# EAGLE library part TLS208D1 (library infineon)
The TLS208D1 is a monolithic integrated linear voltage post regulator. The IC regulates an input voltage VI in the range of 2.7 V ≤ VI ≤ 18 V to an adjustable output voltage of 0.8 V to 5.25 V or to a fixed output voltage with a precision of ±2 %. The TLS208D1 is especially designed for applications with a permanent connection to preregulators like DCDC converters.
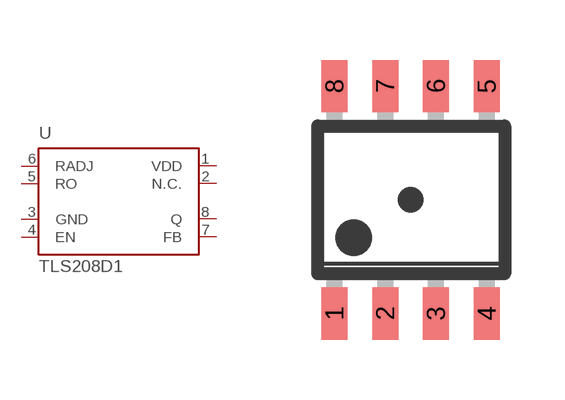
[diagram p9: symbol with the pads of PG-DSO-8; footprint PG-DSO-8]

Designator prefix -

## TLS208D1  [PG-DSO-8]
1  VDD  out
2  N.C.  out
3  GND  pwr
4  EN  pwr
5  RO  pas
6  RADJ  pwr
7  FB  out
8  Q  out

## Footprint PG-DSO-8 (pad centres in mm)
PG-DSO8 Source: TLE5009_FDS_Rev.1.1.pdf
smd 0.65 x 1.31: 1 -1.905,-2.845; 2 -0.635,-2.845; 3 0.635,-2.845; 4 1.905,-2.845; 5 1.905,2.845; 6 0.635,2.845; 7 -0.635,2.845; 8 -1.905,2.845